# EAGLE library part 686118183822 (library Eagle_FPC_CONNECTOR_AND_FFC_CAB (rev18c))
686118183822 WR-FPC 1.00mm SMT ZIF Vertical Type A <http://katalog.we-online.de/media/images/v2/Family_WR-FPC_6861xx183822.jpg> Details see: http://katalog.we-online.de/en/em/FPC_1_00_SMT_ZIF_VERTICAL_TYPE_A_6861xx183822 Created by Yingchun,shan 2016 (C) Wurth Elektronik
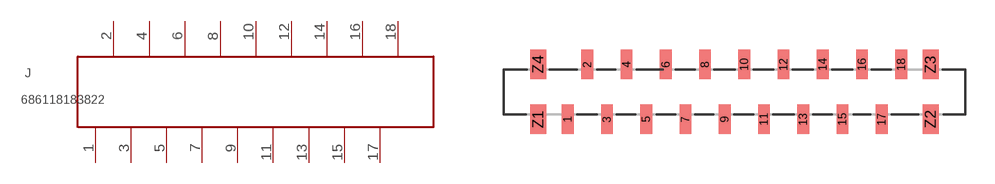
[diagram p172: symbol with the pads of 686118183822; footprint 686118183822]

Designator prefix J

## 686118183822  [686118183822]
1  1  pas
2  2  pas
3  3  pas
4  4  pas
5  5  pas
6  6  pas
7  7  pas
8  8  pas
9  9  pas
10  10  pas
11  11  pas
12  12  pas
13  13  pas
14  14  pas
15  15  pas
16  16  pas
17  17  pas
18  18  pas

## Footprint 686118183822 (pad centres in mm)
smd 0.6 x 1.5: 1 -8.5,-1.4; 2 -7.5,1.4; 3 -6.5,-1.4; 4 -5.5,1.4; 5 -4.5,-1.4; 6 -3.5,1.4; 7 -2.5,-1.4; 8 -1.5,1.4; 9 -0.5,-1.4; 10 0.5,1.4; 11 1.5,-1.4; 12 2.5,1.4; 13 3.5,-1.4; 14 4.5,1.4; 15 5.5,-1.4; 16 6.5,1.4; 17 7.5,-1.4; 18 8.5,1.4
smd 0.8 x 1.5: Z1 -10,-1.4; Z2 10,-1.4; Z3 10,1.4; Z4 -10,1.4